# Altium footprint library CAPPOL_SMD_SIZE_E.PcbLib: 1 footprints
Each footprint in its own frame and in the unit in brackets; x right, y up, seen from the top. Pads: shape width x height; smd on the part's side, far side on the other; paste and mask are expansions set on the pad; w line width, h text height; cw(c..) or ccw(c..) is an arc to the next point about the centre after c.
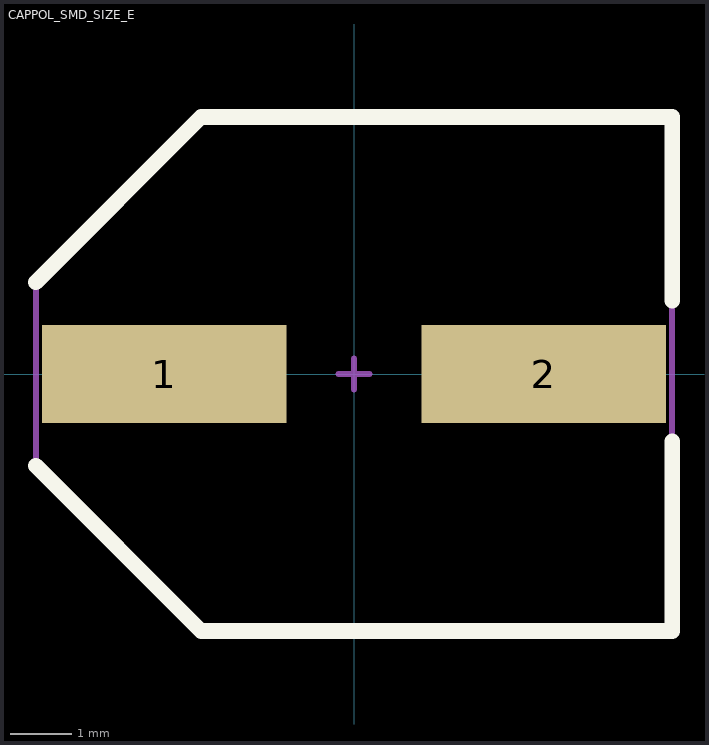
[diagram p0: the footprint, top view; thin cyan lines are the x and y axes]

## CAPPOL_SMD_SIZE_E [mm]
height 0.95
pads (2):
  rect 4x1.6 smd: 1(-3.1,0) 2(3.1,0)
Top Overlay:
  lines w0.254: -5.2,-1.5 -2.5,-4.2 5.2,-4.2 5.2,-1.1 ; -5.2,1.5 -2.5,4.2 5.2,4.2 5.2,1.2
Top Assembly:
  lines w0.1: -0.25,0 0.25,0 ; 0,-0.25 0,0.25 ; -5.2,-1.5 -2.5,-4.2 5.2,-4.2 5.2,4.2 -2.5,4.2 -5.2,1.5 -5.2,-1.5
  text "'.Designator'" at 0,0 h0.7
3D body "User Library-capacitor size E.STEP": height 6.2, standoff -0.01, extent -4.5,-4.15 4.5,4.15